# EAGLE library part OPTO-PIXEL (library LED Test)
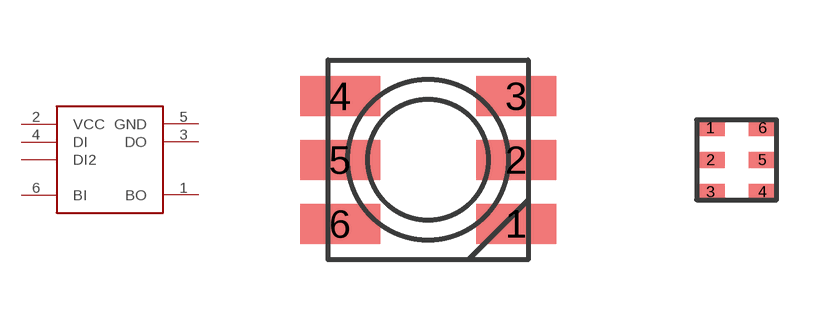
[diagram p0: symbol with the pads of 601000200; footprints 601000200, IN-PI20TBT5R5G5B]

Designator prefix -

## OPTO-PIXEL601000200  [601000200]
1  BO
2  VCC
3  DO
4  DI
5  GND
6  BI

## OPTO-PIXELIN-PI20TBT5R5G5B  [IN-PI20TBT5R5G5B]
1  DI
2  GND
5  VCC
6  DO

## OPTO-PIXELIN-PI55TATPRPGPB  [IN-PI55TATPRPGPB]
1  VCC
2  DO
3  GND
4  DI

## OPTO-PIXELIN-PI55TBTPRPGPB  [IN-PI55TBTPRPGPB]
DI  DI
DO  DO
GND  GND
VCC  VCC
VDD  VCC

## OPTO-PIXELIN-PI33TBTPRPGPB  [IN-PI33TBTPRPGPB]
1  GND
2  DI
3  VCC
4  DO

## OPTO-PIXELCOM-16347  [COM-16347]
Pads as for IN-PI55TATPRPGPB

## OPTO-PIXELLTST-E683CEGBK  [LTST-E683CEGBK]
1  GND
2  DI
3  DO
4  VCC

## OPTO-PIXELCOMBINED-V1.04  [COMBINED4]
1.BI  BI
1.BO  BO
DATA-IN  DI
DATA-OUT  DO
GND  GND
VCC  VCC

## Footprint 601000200 (pad centres in mm)
smd 2 x 1: 1 2.2,-1.6; 2 2.2,0; 3 2.2,1.6; 4 -2.2,1.6; 5 -2.2,0; 6 -2.2,-1.6

## Footprint IN-PI20TBT5R5G5B (pad centres in mm)
smd 0.7 x 0.4: 1 -0.65,0.8; 2 -0.65,0; 3 -0.65,-0.8; 4 0.65,-0.8; 5 0.65,0; 6 0.65,0.8

## Footprint IN-PI55TATPRPGPB (pad centres in mm)
smd 1 x 1: 1 -2.2,1.6; 2 -2.2,-1.6; 3 2.2,-1.6; 4 2.2,1.6

## Footprint IN-PI55TBTPRPGPB (pad centres in mm)
smd 1 x 1: DI 2.2,0; DO 2.2,-1.6; GND -2.2,-1.6; NC -2.2,1.6; VCC -2.2,0; VDD 2.2,1.6

## Footprint IN-PI33TBTPRPGPB (pad centres in mm)
smd 1 x 1: 1 1.44,-1.07; 2 1.44,1.07; 3 -1.44,1.07; 4 -1.44,-1.07

## Footprint COM-16347 (pad centres in mm)
smd 1.5 x 0.9: 1 -2.55,1.65; 2 -2.55,-1.65; 3 2.55,-1.65; 4 2.55,1.65

## Footprint LTST-E683CEGBK (pad centres in mm)
smd 0.7 x 1.15: 1 0.75,1.7; 2 -0.75,1.7; 3 0.75,-1.7; 4 -0.75,-1.7

## Footprint COMBINED4 (pad centres in mm)
smd 2 x 1: 1.BI -2.2,-1.6; 1.BO 2.2,-1.6
drill 0.6 long: DATA-IN -2.2,1.6
drill 0.25 octagon: DATA-OUT 0.7,2.1
drill 0.2 square: GND -2.9,0; VCC 2.9,0